# EAGLE library part POLOLUDRV8835 (library me 433 2021)
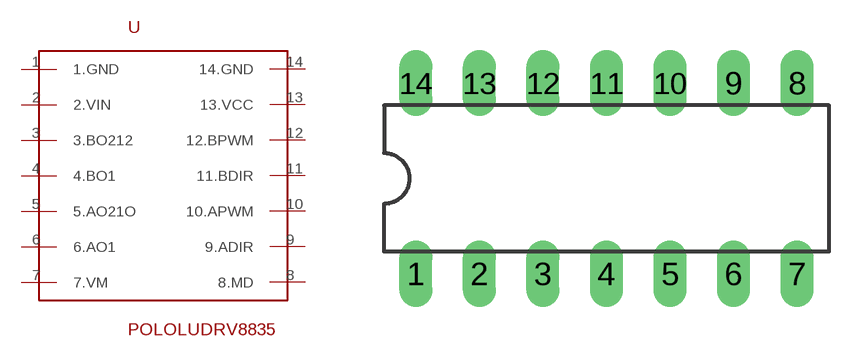
[diagram p17: symbol with the pads of DIL14; footprint DIL14]

Designator prefix -

## POLOLUDRV8835  [DIL14]
1  1.GND
2  2.VIN
3  3.BO212
4  4.BO1
5  5.AO21O
6  6.AO1
7  7.VM
8  8.MD
9  9.ADIR
10  10.APWM
11  11.BDIR
12  12.BPWM
13  13.VCC
14  14.GND

## Footprint DIL14 (pad centres in mm)
Dual In Line Package
drill 0.813 long: 1 -7.62,-3.81; 2 -5.08,-3.81; 3 -2.54,-3.81; 4 0,-3.81; 5 2.54,-3.81; 6 5.08,-3.81; 7 7.62,-3.81; 8 7.62,3.81; 9 5.08,3.81; 10 2.54,3.81; 11 0,3.81; 12 -2.54,3.81; 13 -5.08,3.81; 14 -7.62,3.81